# Altium footprint library WE-EPLE.PcbLib: 1 footprints
Each footprint in its own frame and in the unit in brackets; x right, y up, seen from the top. Pads: shape width x height; smd on the part's side, far side on the other; paste and mask are expansions set on the pad; w line width, h text height; cw(c..) or ccw(c..) is an arc to the next point about the centre after c.
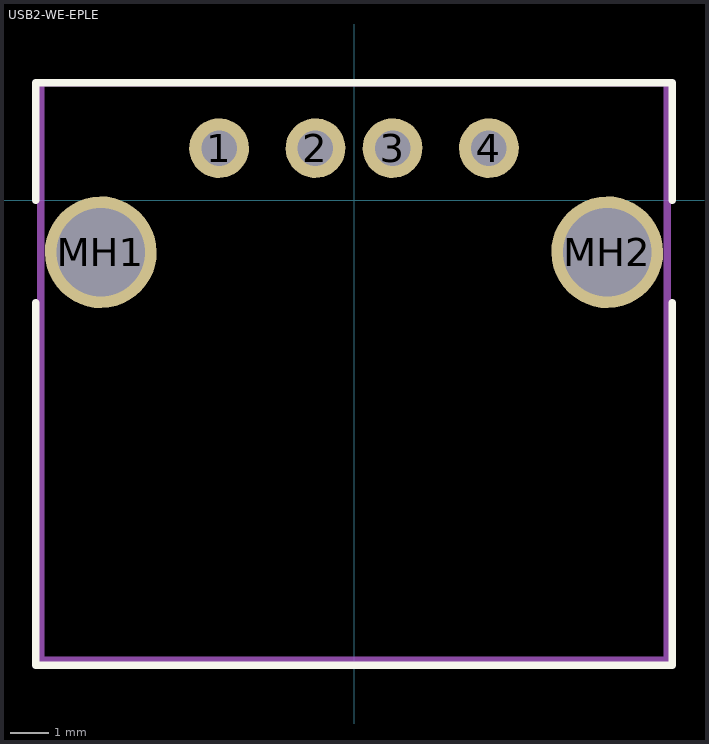
[diagram p0: the footprint, top view; thin cyan lines are the x and y axes]

## USB2-WE-EPLE [mm] "THT, USB 2.0 A Connector, 4Pin, Body 15.8 x14.5mm"
height 7.12
pads (6):
  round 1.55 hole 0.92: 1(-3.5,1.35) 2(-1,1.35) 3(1,1.35) 4(3.5,1.35)
  round 2.9 hole 2.3: MH1(-6.57,-1.35) MH2(6.57,-1.35)
Top Overlay:
  lines w0.2: -8.255,-2.667 -8.255,-12.065 8.255,-12.065 8.255,-2.667 ; -8.255,0 -8.255,3.048 8.255,3.048 8.255,0
Mechanical 13:
  lines w0.2: -8.128,-11.938 -8.128,3.048 8.128,3.048 8.128,-11.938 -8.128,-11.938
3D body "8492121_Download_STP_WE-EPLE_rev1.stp": height 7.21, standoff -4.08, extent -7.891,-11.571 7.872,2.929